# Altium footprint library MECH_NUT_M3.PcbLib: 1 footprints
Each footprint in its own frame and in the unit in brackets; x right, y up, seen from the top. Pads: shape width x height; smd on the part's side, far side on the other; paste and mask are expansions set on the pad; w line width, h text height; cw(c..) or ccw(c..) is an arc to the next point about the centre after c.
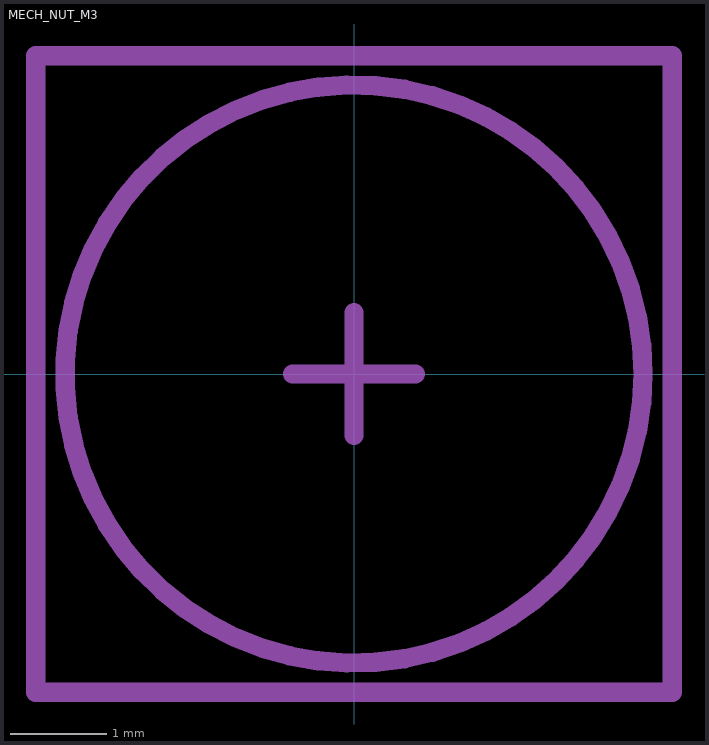
[diagram p0: the footprint, top view; thin cyan lines are the x and y axes]

## MECH_NUT_M3 [mm]
Mechanical 13:
  circle w0.2: c0,0 r3
Mechanical 15:
  lines w0.2: -0.635,0 0.635,0 ; 0,-0.635 0,0.635 ; -3.302,-3.302 -3.302,3.302 3.302,3.302 3.302,-3.302 -3.302,-3.302
Mechanical 17:
  text ".Designator" at -2.54,-0.381 h1.02
3D body "Hexagon nut ISO 4032 (DIN 934) - M3.STEP": height 2.42, standoff 0.02, extent -3.175,-2.75 3.176,2.75